# Altium footprint library LM2596.PcbLib: 1 footprints
Each footprint in its own frame and in the unit in brackets; x right, y up, seen from the top. Pads: shape width x height; smd on the part's side, far side on the other; paste and mask are expansions set on the pad; w line width, h text height; cw(c..) or ccw(c..) is an arc to the next point about the centre after c.
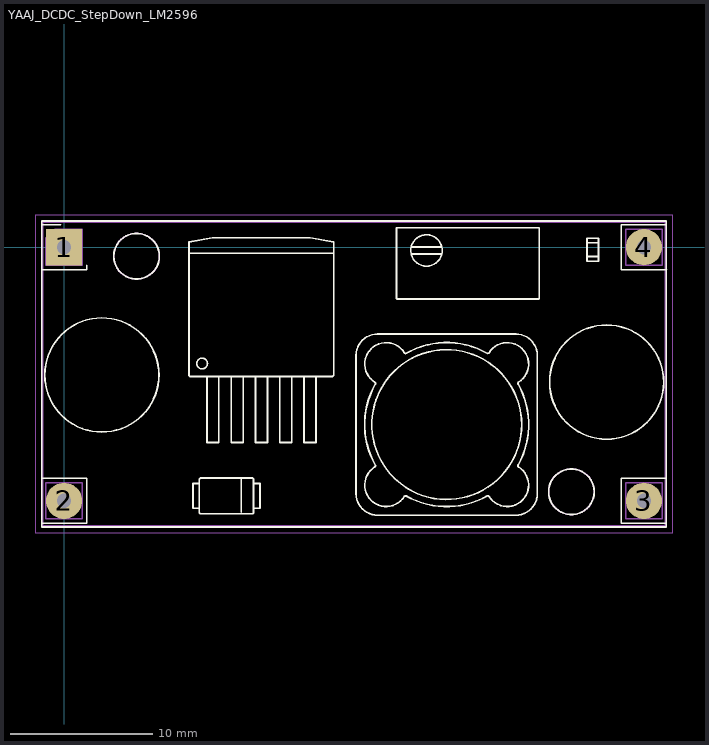
[diagram p0: the footprint, top view; thin cyan lines are the x and y axes]

## YAAJ_DCDC_StepDown_LM2596 [mm]
pads (4):
  rect 2.54x2.54 hole 1: 1(0,0)
  round 2.54 hole 1: 2(0,-17.78) 3(40.64,-17.78) 4(40.64,0)
F.SilkS:
  circle w0.12: c9.673,-8.155 r0.375
  circle w0.12: c35.56,-17.145 r1.599
  circle w0.12: c5.08,-0.635 r1.599
  circle w0.12: c26.817,-12.436 r5.25
  circle w0.12: c38.029,-9.455 r4
  circle w0.12: c2.647,-8.957 r4
  lines w0.12: -1.55,-19.36 1.58,-19.36 1.58,-16.2 -1.55,-16.2 ; -1.55,-1.575 1.58,-1.58 1.58,-1.27 ; -1.55,1.58 -0.25,1.58 ; 8.749,-1.166 8.749,-1.004 ; 8.75,-0.427 18.91,-0.427 ; 9.482,-18.308 9.032,-18.308 9.032,-16.558 9.482,-16.558 ; 10.01,-9.067 10.01,-13.697 10.85,-13.697 10.85,-9.067 ; 11.71,-9.067 11.71,-13.697 12.55,-13.697 12.55,-9.067 ; 12.411,-18.583 12.411,-16.283 ; 13.282,-18.308 13.732,-18.308 13.732,-16.558 13.282,-16.558 ; 13.283,-16.795 13.283,-16.7 ; 13.41,-9.067 13.41,-13.697 14.25,-13.697 14.25,-9.067 ; 15.11,-9.067 15.11,-13.697 15.95,-13.697 15.95,-9.067 ; 16.81,-9.067 16.81,-13.697 17.65,-13.697 17.65,-9.067 ; 24.324,-0.463 cw(c25.4,-0.232) 24.336,-0.514 ; 24.324,-0.002 24.349,-0.007 ; 24.336,0.049 24.361,0.018 ; 24.356,0.024 24.349,-0.007 ; 24.361,-0.482 26.439,-0.482 ; 26.439,0.018 24.361,0.018 ; 31.814,1.369 31.859,1.369 ; 31.908,1.369 31.942,1.369 ; 36.649,-0.66 37.449,-0.66 ; 36.649,0.3 37.449,0.3 ; 42.175,-19.36 39.06,-19.36 39.06,-16.2 42.175,-16.2 ; 42.175,1.58 39.06,1.58 39.06,-1.58 42.22,-1.58 ; 24.349,-0.007 24.361,0.018 ; -1.555,-19.615 42.195,-19.615 42.195,1.835 -1.555,1.835 -1.555,-19.615 ; 8.75,-8.989 8.75,0.362 10.4,0.653 17.26,0.653 18.91,0.362 18.91,-8.989 18.833,-9.067 8.828,-9.067 8.75,-8.989 ; 9.482,-18.583 ccw(c9.582,-18.583) 9.582,-18.683 13.182,-18.683 ccw(c13.182,-18.583) 13.282,-18.583 13.282,-16.283 ccw(c13.182,-16.283) 13.182,-16.183 9.582,-16.183 ccw(c9.582,-16.283) 9.482,-16.283 9.482,-18.583 ; 20.467,-17.286 ccw(c21.967,-17.286) 21.967,-18.786 31.667,-18.786 ccw(c31.667,-17.286) 33.167,-17.286 33.167,-7.586 ccw(c31.667,-7.586) 31.667,-6.086 21.967,-6.086 ccw(c21.967,-7.586) 20.467,-7.586 20.467,-17.286 ; 21.781,-15.406 ccw(c21.728,-15.321) 21.815,-15.271 cw(c26.817,-12.436) 21.815,-9.6 ccw(c21.728,-9.551) 21.781,-9.466 cw(c22.575,-8.193) 23.848,-7.4 ccw(c23.932,-7.347) 23.982,-7.434 cw(c26.817,-12.436) 29.653,-7.434 ccw(c29.702,-7.347) 29.787,-7.4 cw(c31.06,-8.193) 31.854,-9.466 ccw(c31.907,-9.551) 31.82,-9.6 cw(c26.817,-12.436) 31.82,-15.271 ccw(c31.907,-15.321) 31.854,-15.406 cw(c31.06,-16.678) 29.787,-17.472 ccw(c29.702,-17.525) 29.653,-17.438 cw(c26.817,-12.436) 23.982,-17.438 ccw(c23.932,-17.525) 23.848,-17.472 cw(c22.575,-16.678) 21.781,-15.406 ; 23.3,-3.582 ccw(c23.35,-3.582) 23.35,-3.632 33.25,-3.632 ccw(c33.25,-3.582) 33.3,-3.582 33.3,1.318 ccw(c33.25,1.318) 33.25,1.368 23.35,1.368 ccw(c23.35,1.318) 23.3,1.318 23.3,-3.582 ; 36.649,-0.98 37.449,-0.98 37.449,0.62 36.649,0.62 36.649,-0.98
F.Fab:
  circle w0.1: c5.08,-0.635 r1.599
  circle w0.1: c35.56,-17.145 r1.599
  lines w0.1: -1.48,-19.54 -1.48,1.76 42.12,1.76 42.12,-19.54 -1.48,-19.54 ; -1.27,-19.05 -1.27,-16.51 1.27,-16.51 1.27,-19.05 -1.27,-19.05 ; -1.27,-1.27 1.27,-1.27 1.27,1.27 -0.635,1.27 -1.27,0.635 -1.27,-1.27 ; 39.37,-19.05 39.37,-16.51 41.91,-16.51 41.91,-19.05 39.37,-19.05 ; 39.37,-1.27 39.37,1.27 41.91,1.27 41.91,-1.27 39.37,-1.27
  text "REF**" at 19.657,-9.54 h1
F.CrtYd:
  lines w0.05: -1.98,-20.04 -1.98,2.26 42.62,2.26 42.62,-20.04 -1.98,-20.04